# Altium schematic symbol library 78xx.SchLib: 11 symbols
Pins are listed as number, name and electrical type; pins without a type are passive.

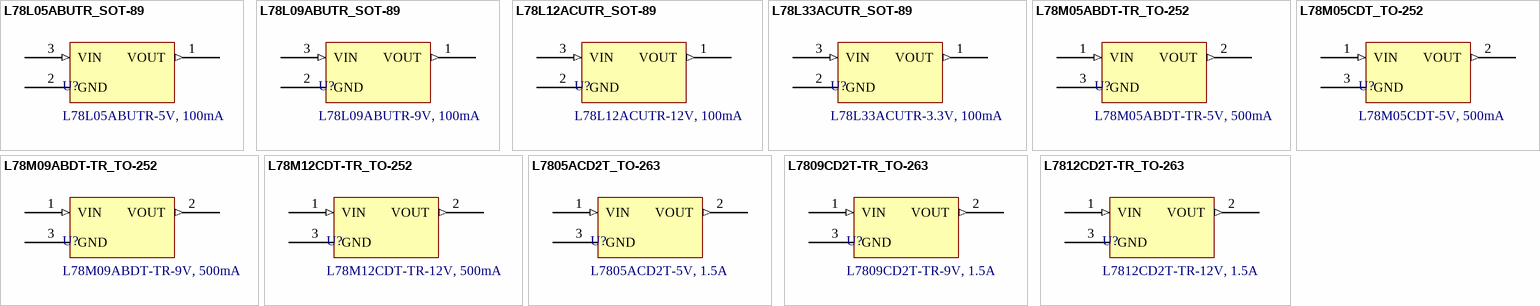
[diagram p0: symbols L78L05ABUTR_SOT-89 to L7812CD2T-TR_TO-263]

## L78L05ABUTR_SOT-89
designator U?, comment L78L05ABUTR-5V, 100mA
Out: 5V, 100mA; In: 7V to 30V; Pacakge: SOT-89; Manufacturer: STMicroelectronics; Voltage Input: 7V - 30V; Voltage Output: 5V; Supplier 1 URL: https://www.mouser.com/ProductDetail/STMicroelectronics/L78L05ABUTR?qs=1feNxqzJ94QQZYRl%252B78DYA%3D%3D; Supplier 2 URL: https://www.digikey.com/en/products/detail/stmicroelectronics/L78L05ABUTR/585705; Supplier 3 URL: https://www.thegioiic.com/l78l05-ic-on-ap-5v-100ma; Value: L78L05ABUTR-5V, 100mA; Current Output: 100mA; Manufacturer Part Number: L78L05ABUTR; Mount: SMD/SMT; Operating Temperature Max: + 85 C; Operating Temperature Min: - 40 C; Package / Case: SOT-89; Packaging: Tape and Reel; Supplier 1: Mouser; Supplier 1 Part Number: 511-L78L05ABU; Supplier 2: Digi-Key; Supplier 2 Part Number: 497-1181-2-ND; Supplier 3: thegioiic; Supplier 3 Part Number: N/A; ComponentLink1Description: Datasheet; ComponentLink1URL: https://www.st.com/resource/en/datasheet/l78l.pdf
footprint SOT-89
pins: 1 VOUT (out), 2 GND, 3 VIN (in)

## L78L09ABUTR_SOT-89
designator U?, comment L78L09ABUTR-9V, 100mA
Out: 9V, 100mA; In: 11V to 30V; Pacakge: SOT-89; Manufacturer: STMicroelectronics; Voltage Input: 11V - 30V; Voltage Output: 9V; Supplier 1 URL: https://www.mouser.com/ProductDetail/STMicroelectronics/L78L09ABUTR?qs=1X5Df8S5MyhPYDpOL9OOJA%3D%3D; Supplier 2 URL: https://www.digikey.com/en/products/detail/stmicroelectronics/L78L09ABUTR/1038278?s=N4IgTCBcDaIDIHYAccAMBOAggIQKoBUAlEAXQF8g; Supplier 3 URL: https://www.thegioiic.com/78l09s-ic-on-ap-9v-100ma; Value: L78L09ABUTR-9V, 100mA; Current Output: 100mA; Manufacturer Part Number: L78L09ABUTR; Mount: SMD/SMT; Operating Temperature Max: + 85 C; Operating Temperature Min: - 40 C; Package / Case: SOT-89; Packaging: Tape and Reel; Supplier 1: Mouser; Supplier 1 Part Number: 511-L78L09ABU-TR; Supplier 2: Digi-Key; Supplier 2 Part Number: 497-7273-2-ND; Supplier 3: thegioiic; Supplier 3 Part Number: N/A; ComponentLink1Description: Datasheet; ComponentLink1URL: https://www.st.com/resource/en/datasheet/l78l.pdf
footprint SOT-89
pins: 1 VOUT (out), 2 GND, 3 VIN (in)

## L78L12ACUTR_SOT-89
designator U?, comment L78L12ACUTR-12V, 100mA
Out: 12V, 100mA; In: 14V to 35V; Pacakge: SOT-89; Manufacturer: STMicroelectronics; Voltage Input: 14V - 35V; Voltage Output: 12V; Supplier 1 URL: https://www.mouser.com/ProductDetail/STMicroelectronics/L78L12ACUTR?qs=lsQ%2Fasl43rq%252BGNm5TGwtyg%3D%3D; Supplier 2 URL: https://www.digikey.com/en/products/detail/stmicroelectronics/L78L12ACUTR/585719?s=N4IgTCBcDaIDIHYAccCMYCCBhAqgFQCUQBdAXyA; Supplier 3 URL: N/A; Value: L78L12ACUTR-12V, 100mA; Current Output: 100mA; Manufacturer Part Number: L78L12ACUTR; Mount: SMD/SMT; Operating Temperature Max: + 85 C; Operating Temperature Min: - 40 C; Package / Case: SOT-89; Packaging: Tape and Reel; Supplier 1: Mouser; Supplier 1 Part Number: 511-L78L12ACU; Supplier 2: Digi-Key; Supplier 2 Part Number: 497-1195-2-ND; Supplier 3: thegioiic; Supplier 3 Part Number: N/A; ComponentLink1Description: Datasheet; ComponentLink1URL: https://www.st.com/resource/en/datasheet/l78l.pdf
footprint SOT-89
pins: 1 VOUT (out), 2 GND, 3 VIN (in)

## L78L33ACUTR_SOT-89
designator U?, comment L78L33ACUTR-3.3V, 100mA
Out: 3.3V, 100mA; In: 5.3V to 30V; Pacakge: SOT-89; Manufacturer: STMicroelectronics; Voltage Input: 5.3V - 30V; Voltage Output: 3.3V; Supplier 1 URL: https://www.mouser.com/ProductDetail/STMicroelectronics/L78L33ACUTR?qs=hDePDv5mxMFi%252BjA%2FaAMQCg%3D%3D; Supplier 2 URL: https://www.digikey.com/en/products/detail/stmicroelectronics/L78L33ACUTR/585724?s=N4IgTCBcDaIDIHYAccDMqCCBhAqgFQCUQBdAXyA; Supplier 3 URL: N/A; Value: L78L33ACUTR-3.3V, 100mA; Current Output: 100mA; Manufacturer Part Number: L78L33ACUTR; Mount: SMD/SMT; Operating Temperature Max: + 85 C; Operating Temperature Min: - 40 C; Package / Case: SOT-89; Packaging: Tape and Reel; Supplier 1: Mouser; Supplier 1 Part Number: 511-L78L33ACU; Supplier 2: Digi-Key; Supplier 2 Part Number: 497-1200-2-ND; Supplier 3: thegioiic; Supplier 3 Part Number: N/A; ComponentLink1Description: Datasheet; ComponentLink1URL: https://www.st.com/resource/en/datasheet/l78l.pdf
footprint SOT-89
pins: 1 VOUT (out), 2 GND, 3 VIN (in)

## L78M05ABDT-TR_TO-252
designator U?, comment L78M05ABDT-TR-5V, 500mA
Out: 5V, 500mA; In: 7V to 35V; Pacakge: TO-252; Manufacturer: STMicroelectronics; Voltage Input: 7V - 35V; Voltage Output: 5V; Supplier 1 URL: https://www.mouser.com/ProductDetail/STMicroelectronics/L78M05ABDT-TR?qs=kdoK93vJZIY3pGnUXsif4w%3D%3D; Supplier 2 URL: https://www.digikey.com/en/products/detail/stmicroelectronics/L78M05ABDT-TR/585725?s=N4IgTCBcDaIDIHYAcBZADAVgIICEAiAKgLQEBKIAugL5A; Supplier 3 URL: https://www.thegioiic.com/l78m05abdt-tr-ic-on-ap-5v-0-5a; Value: L78M05ABDT-TR-5V, 500mA; Current Output: 500mA; Manufacturer Part Number: L78M05ABDT-TR; Mount: SMD/SMT; Operating Temperature Max: + 85 C; Operating Temperature Min: - 40 C; Package / Case: TO-252; Packaging: Tape and Reel; Supplier 1: Mouser; Supplier 1 Part Number: 511-L78M05ABDT-TR; Supplier 2: Digi-Key; Supplier 2 Part Number: 497-1201-2-ND; Supplier 3: thegioiic; Supplier 3 Part Number: N/A; ComponentLink1Description: Datasheet; ComponentLink1URL: https://www.mouser.com/datasheet/2/389/l78m-974157.pdf
footprint TO-252 (D-PAK)
pins: 1 VIN (in), 2 VOUT (out), 3 GND

## L78M05CDT_TO-252
designator U?, comment L78M05CDT-5V, 500mA
Out: 5V, 500mA; In: 7V to 35V; Pacakge: TO-252; Manufacturer: STMicroelectronics; Voltage Input: 7V - 35V; Voltage Output: 5V; Supplier 1 URL: https://www.mouser.com/ProductDetail/STMicroelectronics/L78M05CDT?qs=EYQuxaDwR79rnNxSL0UEZA%3D%3D; Supplier 2 URL: https://www.digikey.com/en/products/detail/stmicroelectronics/L78M05CDT/634720; Supplier 3 URL: https://www.thegioiic.com/l78m05cdt-ic-on-ap-5v-500ma; Value: L78M05CDT-5V, 500mA; Current Output: 500mA; Manufacturer Part Number: L78M05CDT; Mount: SMD/SMT; Operating Temperature Max: + 85 C; Operating Temperature Min: - 40 C; Package / Case: TO-252; Packaging: Tape and Reel; Supplier 1: Mouser; Supplier 1 Part Number: 511-L78M05CDT; Supplier 2: Digi-Key; Supplier 2 Part Number: 497-2956-5-ND; Supplier 3: thegioiic; Supplier 3 Part Number: N/A; ComponentLink1Description: Datasheet; ComponentLink1URL: https://www.mouser.com/datasheet/2/389/l78m-1849664.pdf
footprint TO-252 (D-PAK)
pins: 1 VIN (in), 2 VOUT (out), 3 GND

## L78M09ABDT-TR_TO-252
designator U?, comment L78M09ABDT-TR-9V, 500mA
Out: 9V, 500mA; In: 11V to 35V; Pacakge: TO-252; Manufacturer: STMicroelectronics; Voltage Input: 11V - 35V; Voltage Output: 9V; Supplier 1 URL: https://www.mouser.com/ProductDetail/STMicroelectronics/L78M09ABDT-TR?qs=1MLYYPJBAjHSYObOJcvCaA%3D%3D; Supplier 2 URL: https://www.digikey.com/en/products/detail/stmicroelectronics/L78M09ABDT-TR/1663447?s=N4IgTCBcDaIDIHYAcBZADATgIICEAiAKgLQEBKIAugL5A; Supplier 3 URL: https://www.thegioiic.com/l78m09abdt-tr-ic-on-ap-9v-0-5a; Value: L78M09ABDT-TR-9V, 500mA; Current Output: 500mA; Manufacturer Part Number: L78M09ABDT-TR; Mount: SMD/SMT; Operating Temperature Max: + 85 C; Operating Temperature Min: - 40 C; Package / Case: TO-252; Packaging: Tape and Reel; Supplier 1: Mouser; Supplier 1 Part Number: 511-L78M09ABDT-TR; Supplier 2: Digi-Key; Supplier 2 Part Number: 497-14163-2-ND; Supplier 3: thegioiic; Supplier 3 Part Number: N/A; ComponentLink1Description: Datasheet; ComponentLink1URL: https://www.mouser.com/datasheet/2/389/l78m-974157.pdf
footprint TO-252 (D-PAK)
pins: 1 VIN (in), 2 VOUT (out), 3 GND

## L78M12CDT-TR_TO-252
designator U?, comment L78M12CDT-TR-12V, 500mA
Out: 12V, 500mA; In: 14V to 35V; Pacakge: TO-252; Manufacturer: STMicroelectronics; Voltage Input: 14V - 35V; Voltage Output: 12V; Supplier 1 URL: https://www.mouser.vn/ProductDetail/STMicroelectronics/L78M12CDT-TR?qs=qc0R%252BzdqlhoQMD%252Bqk94JGQ%3D%3D; Supplier 2 URL: https://www.digikey.com/en/products/detail/stmicroelectronics/L78M12CDT-TR/585735?s=N4IgTCBcDaIDIHYAcBZAjGAwgEQCoFpcAlEAXQF8g; Supplier 3 URL: https://www.thegioiic.com/l78m12cdt-tr-ic-on-ap-12v-500ma; Value: L78M12CDT-TR-12V, 500mA; Current Output: 500mA; Manufacturer Part Number: L78M12CDT-TR; Mount: SMD/SMT; Operating Temperature Max: + 85 C; Operating Temperature Min: - 40 C; Package / Case: TO-252; Packaging: Tape and Reel; Supplier 1: Mouser; Supplier 1 Part Number: 511-L78M12CDT-TR; Supplier 2: Digi-Key; Supplier 2 Part Number: 497-1211-2-ND; Supplier 3: thegioiic; Supplier 3 Part Number: N/A; ComponentLink1Description: Datasheet; ComponentLink1URL: https://www.mouser.com/datasheet/2/389/l78m-974157.pdf
footprint TO-252 (D-PAK)
pins: 1 VIN (in), 2 VOUT (out), 3 GND

## L7805ACD2T_TO-263
designator U?, comment L7805ACD2T-5V, 1.5A
Out: 5V, 1.5A; In: 7V to 35V; Pacakge: TO-263; Manufacturer: STMicroelectronics; Voltage Input: 7V - 35V; Voltage Output: 5V; Supplier 1 URL: https://www.mouser.com/ProductDetail/STMicroelectronics/L7805ACD2T-TR?qs=Ctxo64yJVFuOLXlPPZdJUQ%3D%3D; Supplier 2 URL: https://www.digikey.com/en/products/detail/stmicroelectronics/L7805ACD2T-TR/1038230; Supplier 3 URL: https://www.thegioiic.com/l7805acd2t-ic-on-ap-5v-1-5a; Value: L7805ACD2T-5V, 1.5A; Current Output: 1.5A; Manufacturer Part Number: L7805ACD2T; Mount: SMD/SMT; Operating Temperature Max: + 85 C; Operating Temperature Min: - 40 C; Package / Case: TO-263; Packaging: Tape and Reel; Supplier 1: Mouser; Supplier 1 Part Number: 511-L7805ACD2T-TR; Supplier 2: Digi-Key; Supplier 2 Part Number: 497-7253-2-ND; Supplier 3: thegioiic; Supplier 3 Part Number: N/A; ComponentLink1Description: Datasheet; ComponentLink1URL: https://www.st.com/resource/en/datasheet/l78.pdf
footprint TO-263 (D2PAK)
pins: 1 VIN (in), 2 VOUT (out), 3 GND

## L7809CD2T-TR_TO-263
designator U?, comment L7809CD2T-TR-9V, 1.5A
Out: 9V, 1.5A; In: 11V to 35V; Pacakge: TO-263; Manufacturer: STMicroelectronics; Voltage Input: 11V - 35V; Voltage Output: 9V; Supplier 1 URL: https://www.mouser.com/ProductDetail/STMicroelectronics/L7809CD2T-TR?qs=15AzPhfEMg9%2FqG49g2z5xQ%3D%3D; Supplier 2 URL: https://www.digikey.com/en/products/detail/stmicroelectronics/L7809CD2T-TR/585700?s=N4IgTCBcDaIDIHYAcAGAnAYQCJgCoFpcAlEAXQF8g; Supplier 3 URL: N/A; Value: L7809CD2T-TR-9V, 1.5A; Current Output: 1.5A; Manufacturer Part Number: L7809CD2T-TR; Mount: SMD/SMT; Operating Temperature Max: + 85 C; Operating Temperature Min: - 40 C; Package / Case: TO-263; Packaging: Tape and Reel; Supplier 1: Mouser; Supplier 1 Part Number: 511-L7809CD2T-TR; Supplier 2: Digi-Key; Supplier 2 Part Number: 497-1176-2-ND; Supplier 3: thegioiic; Supplier 3 Part Number: N/A; ComponentLink1Description: Datasheet; ComponentLink1URL: https://www.st.com/resource/en/datasheet/l78.pdf
footprint TO-263 (D2PAK)
pins: 1 VIN (in), 2 VOUT (out), 3 GND

## L7812CD2T-TR_TO-263
designator U?, comment L7812CD2T-TR-12V, 1.5A
Out: 12V, 1.5A; In: 14V to 35V; Pacakge: TO-263; Manufacturer: STMicroelectronics; Voltage Input: 14V - 35V; Voltage Output: 12V; Supplier 1 URL: https://www.mouser.vn/ProductDetail/STMicroelectronics/L7812CD2T-TR?qs=St21y7kBsOZRCvbPRwGnTg%3D%3D; Supplier 2 URL: https://www.digikey.com/en/products/detail/stmicroelectronics/L7812CD2T-TR/585702?s=N4IgTCBcDaIDIHYAcBGMBhAImAKgWhwCUQBdAXyA; Supplier 3 URL: https://www.thegioiic.com/l7812cd2t-cn-ic-on-ap-12v-1-5a; Value: L7812CD2T-TR-12V, 1.5A; Current Output: 1.5A; Manufacturer Part Number: L7812CD2T-TR; Mount: SMD/SMT; Operating Temperature Max: + 85 C; Operating Temperature Min: - 40 C; Package / Case: TO-263; Packaging: Tape and Reel; Supplier 1: Mouser; Supplier 1 Part Number: 511-L7812CD2T-TR; Supplier 2: Digi-Key; Supplier 2 Part Number: 497-1178-2-ND; Supplier 3: thegioiic; Supplier 3 Part Number: N/A; ComponentLink1Description: Datasheet; ComponentLink1URL: https://www.st.com/resource/en/datasheet/l78.pdf
footprint TO-263 (D2PAK)
pins: 1 VIN (in), 2 VOUT (out), 3 GND